# EAGLE library part 6120XX235221_612014235221 (library Wurth_Connectors_WR-BHD)
WR-BHD 2.54 mm Male Angled Box Header High Temperature KIND PROPERTIES: Pitch 2.54 mm Gender:Male MATERIAL PROPERTIES: Insulator Material:PA6T Insulator Flammability Rating UL94 V-0 Insulator Color:Black Contact Material :Copper Alloy Contact Plating :Gold Contact Type: Stamped GENERAL INFORMATION: Operating Temperature:-40 °C up to +125 °C Compliance:RoHS Working Voltage: 250 V (AC) Withstanding Voltage:500 V (AC) Contact Resistance: 20 mΩ Insulation Resistance:1000 MΩ PACKAGING PROPERTIES Packaging :Tray <https://www.we-online.de/katalog/media/o32907v209%20Family_WR-BHD_6120xx235221.jpg> Details see: https://www.we-online.de/katalog/en/em/BHD_2_54_MALE_ANGLED_BOX_HEADER_HIGH_TEMPERATURE_6120XX235221 Updated by Yingchun,Shan 2019-10-30 2019 (C) Würth Elektronik
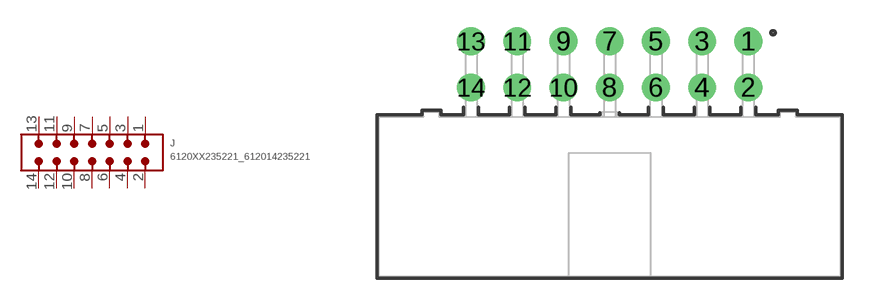
[diagram p103: symbol with the pads of 612014235221; footprint 612014235221]

Designator prefix J

## 6120XX235221_612014235221 (CONTACT-RESISTANCE: 20mOhm; DATASHEET-URL: https://www.we-online.com/redexpert/spec/612014235221?ae; GENDER: Male; IR: 3A; LENGTH: 25.38mm; MOUNT: THT; PACKAGING: Tray; PART-NUMBER: 612014235221; PINS: 14; PITCH: 2.54mm; TYPE: Angled; VALUE: 612014235221; WORKING-VOLTAGE: 250V(AC))  [612014235221]
1  1  pas
2  2  pas
3  3  pas
4  4  pas
5  5  pas
6  6  pas
7  7  pas
8  8  pas
9  9  pas
10  10  pas
11  11  pas
12  12  pas
13  13  pas
14  14  pas

## Footprint 612014235221 (pad centres in mm)
WR-BHD 2.54 mm Male Angled Box Header High Temperature,14 Pins
drill 1.02: 1 7.62,8.54; 2 7.62,6; 3 5.08,8.54; 4 5.08,6; 5 2.54,8.54; 6 2.54,6; 7 0,8.54; 8 0,6; 9 -2.54,8.54; 10 -2.54,6; 11 -5.08,8.54; 12 -5.08,6; 13 -7.62,8.54; 14 -7.62,6